# Altium schematic symbol library te_connectivity_dip_switches.SchLib: 1 symbol
Pins are listed as number, name and electrical type; pins without a type are passive.

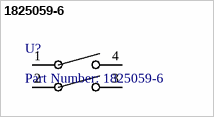
[diagram p0: symbol 1825059-6]

## 1825059-6
designator U?, comment Part Number: 1825059-6
No Description Available; Manufacturer: TE Connectivity; Built_By: EMA_UL_Team; Manufacturer_Part_Number: 1825059-6; Copyright: Copyright (C) 2016 Accelerated Designs. All rights reserved; Manufacturer Link: https://www.te.com/usa-en/product-1825059-6.html; Supplier1: Digikey; Supplier Link 1: https://www.digikey.ca/product-detail/en/te-connectivity-alcoswitch-switches/1825059-6/A105447CT-ND/3465712; Supplier Part Number 1: A105447CT-ND; Stock1: 688; Price1: 1=2.740;  10=2.662;  25=2.5248 (CAD); Component:Link1URL: https://www.te.com/commerce/DocumentDelivery/DDEController?Action=srchrtrv&DocNm=1825059&DocType=Customer+Drawing&DocLang=English; ComponentLink1Description: Datasheet
footprint CONN_2-5174339-5_2-5174339-5(Primary) (68 Position D-Type Cap, Male Pins Connector)
pins: 1, 2, 3, 4